# Altium schematic symbol library PBL - Light Sources.SCHLIB: 18 symbols
Pins are listed as number, name and electrical type; pins without a type are passive.

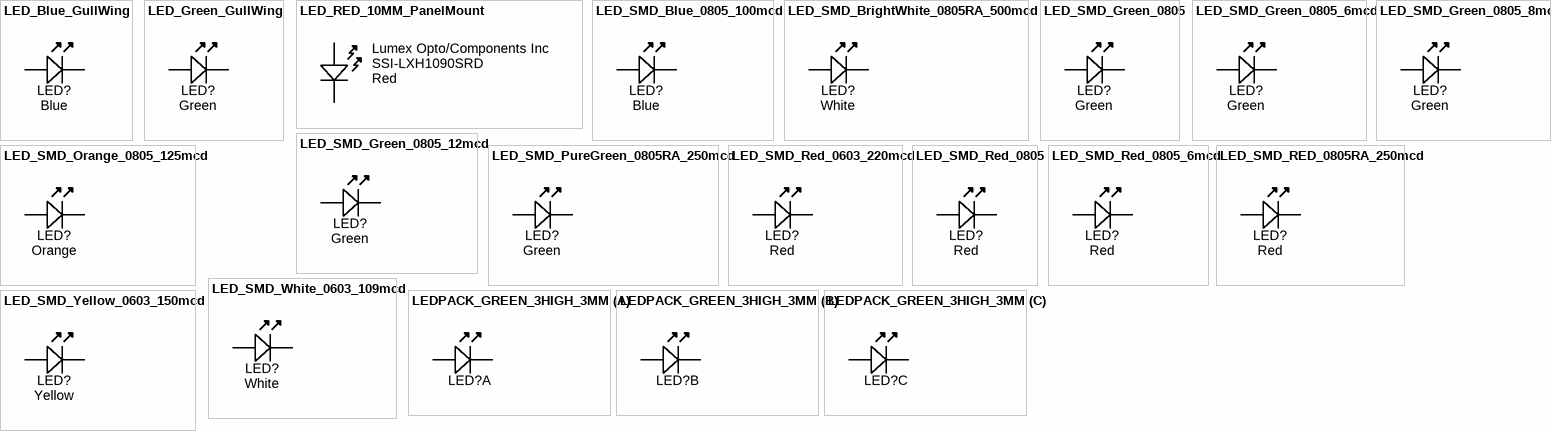
[diagram p0: symbols LED_Blue_GullWing to LEDPACK_GREEN_3HIGH_3MM]

## LED_Blue_GullWing
designator LED?  Color: Blue  (hidden comment: *)
LED, Gull-wing SMD, High-intensity blue; Manufacturer 1: Ligitek; Manufacturer Part Number 1: LDBK9033/TR1; Ratings: 350 mcd; Package / Case: 4.6mm Gull-Wing
footprint LED_GULL1
pins: A, K

## LED_Green_GullWing
designator LED?  Color: Green  (hidden comment: *)
LED Gull-wing SMD High-intensity Green 450mcd 574nm; Manufacturer 1: Ligitek; Manufacturer Part Number 1: L8UG9033/TR1; Ratings: 450 mcd; 574 nm; Material: AlGaInP; Package / Case: 4.6mm Gull-Wing
footprint LED_GULL1
pins: A, K

## LED_RED_10MM_PanelMount
designator LED?, comment Red  Manufacturer 1: Lumex Opto/Components Inc  Manufacturer Part Number 1: SSI-LXH1090SRD
Luminous Flux @ Current - Test: 210 mlm; Current - Test: 20mA; Wavelength - Dominant: 660nm; Millicandela Rating: 250mcd; Voltage - Forward (Vf) Typ: 1.7V; Lens Type: Diffused, Red Tinted; Lens Style/Size: Round, 5mm, T-1 3/4; Viewing Angle: 60°; Description 1: LED 10MM SUPER RED PANEL MOUNT; Shape: Round; Type: LED; RoHS: RoHS Compliant; Category: Optoelectronics; Color: Red; Wavelength - Peak: 660nm; Package / Case: Radial; Mounting Type: Through Hole; Packaging: Bulk; ComponentLink1URL: http://www.lumex.com/specs/SSL-LX5093SRD D.pdf; ComponentLink1Description: http://www.lumex.com/specs/SSL-LX5093SRD D.pdf; Supplier 1: Digi-Key; Supplier Part Number 1: 67-1174-ND; Stock 1: 1425; Pricing 1: 1=0.98, 10=0.78, 50=0.6826, 250=0.585, 1000=0.507 (USD); Lens Color: Red; Panel Cutout Dimensions: 14mm (Round); Voltage: 1.7V; ComponentLink2URL: http://www.lumex.com/specs/SSI-LXH1090SRD.pdf; ComponentLink2Description: http://www.lumex.com/specs/SSI-LXH1090SRD.pdf
pins: A, K

## LED_SMD_Blue_0805_100mcd
designator LED?, comment Blue
LED 0805 SMD Blue 100mcd 470nm; Manufacturer 1: Ligitek; Manufacturer Part Number 1: LG-170DBKZ-CT; Material: InGaN/GaN; Ratings: 100 mcd; 470 nm; Package / Case: 0805; Value: Blue; Color: Blue
footprint LED-0805-K
pins: A, K

## LED_SMD_BrightWhite_0805RA_500mcd
designator LED?, comment White
LED 0805 SIDELED SMD Bright White ~500mcd 20mA; Manufacturer 1: Kingbright Corp; Manufacturer Part Number 1: APA2106QWF/G; Material: InGaN; Ratings: ~500 mcd @ 20 mA; Package / Case: 2.1x0.6x1.0mm SIDELED; Value: White; Color: White
footprint LED-0805S-SIDELED-2.1x0.6x1.0 (Lite-On Inc PLCC Side LED)
pins: A, K

## LED_SMD_Green_0805
designator LED?, comment Green
LED, 0805 SMD, Green; Manufacturer 1: Ligitek; Manufacturer Part Number 1: LG170G-CT; Material: GaP; Ratings: 10 mcd; 573 nm; Package / Case: 0805
footprint LED-0805-K
pins: A, K

## LED_SMD_Green_0805_6mcd
designator LED?  Color: Green
LED, 0805 SMD, Green; Manufacturer 1: LITE-ON; Manufacturer Part Number 1: LTST-C171GKT; Material: GaP; Ratings: 6 mcd; 569 nm; Package / Case: 0805; Supplier 1: Digi-Key; Supplier Part Number 1: 160-1423-1-ND; Value: Green
footprint LED-0805-K
pins: A, K

## LED_SMD_Green_0805_8mcd
designator LED?, comment Green
LED, 0805 SMD, Green; Manufacturer 1: Ligitek; Manufacturer Part Number 1: LG-170PG-CT; Material: GaP; Ratings: 8 mcd; 558 nm; Package / Case: 0805
footprint LED-0805-K
pins: A, K

## LED_SMD_Green_0805_12mcd
designator LED?, comment Green
LED 0805 SMD Green 12mcd 569nm; Manufacturer 1: LITE-ON; Manufacturer Part Number 1: LTST-C171GKT; Material: GaP; Ratings: 12 mcd; 569 nm; Package / Case: 0805; Supplier 1: Digi-Key; Supplier Part Number 1: 160-1423-1-ND; Value: Green; Color: Green
footprint LED-0805-K
pins: A, K

## LED_SMD_Orange_0805_125mcd
designator LED?, comment Orange
LED, 0805 SMD, Orange; Manufacturer 1: Ligitek; Manufacturer Part Number 1: LG-170-8SEF-CT; Material: AIGaInP; Ratings: 125 mcd; 605 nm; Package / Case: 0805
footprint LED-0805-K
pins: A, K

## LED_SMD_PureGreen_0805RA_250mcd
designator LED?, comment Green
LED 0805 SIDELED SMD Green 250mcd 525nm; Manufacturer 1: Kingbright Corp; Manufacturer Part Number 1: APA2106ZGC; Material: InGaN; Ratings: 250 mcd; 525 nm; Package / Case: 2.1x0.6x1.0mm SIDELED; Value: Green; Supplier 1: Digi-Key; Supplier Part Number 1: 754-1062-1-ND; Color: Green
footprint LED-0805S-SIDELED-2.1x0.6x1.0 (Lite-On Inc PLCC Side LED)
pins: A, K

## LED_SMD_Red_0603_220mcd
designator LED?, comment Red
LED 0603 SMD Hyper Red 630nm 220mcd 20mA; Manufacturer 1: Kingbright Corp; Manufacturer Part Number 1: APT1608SURCK; Material: AlGaInP on GaAs; Ratings: 220 mcd; 630 nm; Voltage - Forward (Vf) Typ: 1.95V; Voltage - Forward (Vf) @ 10mA: 1.9V; Package / Case: 0603 (1608 metric); Supplier 1: Digi-Key; Supplier Part Number 1: 754-1123-1-ND
footprint LED-0603-RED
pins: A, K

## LED_SMD_Red_0805
designator LED?, comment Red
LED, 0805 SMD, Red; Manufacturer 1: Ligitek; Manufacturer Part Number 1: LG170SR-CT; Material: GaAIAs; Ratings: 20 mcd; 643 nm; Package / Case: 0805
footprint LED-0805-A
pins: A, K

## LED_SMD_Red_0805_6mcd
designator LED?  Color: Red
LED 0805 SMD Red 6mcd 621nm; Manufacturer 1: Lite-On Inc; Manufacturer Part Number 1: LTST-C171EKT; Material: GaAsP on GaP; Ratings: 6 mcd; 621 nm; Package / Case: 0805; Supplier 1: Digi-Key; Supplier Part Number 1: 160-1422-1-ND; Value: Red
footprint LED-0805-K
pins: A, K

## LED_SMD_RED_0805RA_250mcd
designator LED?, comment Red
LED SMD SIDELED Red 630nm 250mcd 0805; Manufacturer 1: Kingbright Corp; Manufacturer Part Number 1: APA2106SURCK; Material: Al-InGaN; Ratings: 250 mcd; 630 nm; Package / Case: 2.1x0.6x1.0mm SIDELED; Value: Red; Supplier 1: Digi-Key; Supplier Part Number 1: 754-1060-1-ND; Color: Red
footprint LED-0805S-SIDELED-2.1x0.6x1.0 (Lite-On Inc PLCC Side LED)
pins: A, K

## LED_SMD_White_0603_109mcd
designator LED?, comment White
LED 0603 SMD White 8700K 108.5mcd 5mA; Manufacturer 1: Lite-On Inc; Manufacturer Part Number 1: LTW-C193TS5; Material: InGaN; Ratings: 108.5 mcd; 8700K; Millicandela Rating: 230mcd; Voltage - Forward (Vf) Typ: 3.3V; Current - Test: 20mA; Viewing Angle: 120°; Lens Type: Clear, Tinted; Lens Style/Size: Rectangle with Flat Top, 0.8mm x 1.1mm; Voltage - Forward (Vf) @ 10mA: 3.0V; Package / Case: 0603 (1608 metric); Supplier 1: Digi-Key; Supplier Part Number 1: 160-1721-1-ND; Supplier 2: Digi-Key; Supplier Part Number 2: APT1608QWF/D-ND; Manufacturer 2: Kingbright Corp; Manufacturer Part Number 2: APT1608QWF/D; Color: White; Size / Dimension: 1.60mm L x 0.80mm W; Mounting Type: Surface Mount; Luminous Flux @ Current - Test: -; ComponentLink2URL: http://www.kingbrightusa.com/images/catalog/SPEC/APT1608QWF-D.pdf; ComponentLink2Description: APT1608QWF-D Datasheet
footprint LED-0603-WHITE
pins: A, K

## LED_SMD_Yellow_0603_150mcd
designator LED?, comment Yellow
LED 0603 SMD Yellow 590nm 150mcd 20mA; Manufacturer 1: Kingbright Corp; Manufacturer Part Number 1: APT1608SYCK; Material: AlGaInP on GaAs; Ratings: 150 mcd; 590 nm; Voltage - Forward (Vf) Typ: 2V; Voltage - Forward (Vf) @ 10mA: 1.95V; Package / Case: 0603 (1608 metric); Supplier 1: Digi-Key; Supplier Part Number 1: 754-1124-1-ND
footprint LED-0603-YELLOW
pins: A, K

## LEDPACK_GREEN_3HIGH_3MM
designator LED?, comment Power status  (value not drawn)
LED array PCB mount 3-high 3mm green; Manufacturer 1: Dialight; Manufacturer Part Number 1: 564-0100-222F; Ratings: 10mcd; 20mA; Voltge Rating: 2.1V; Wavelength - Peak: 585nm; Viewing Angle: 60°; Package / Case: 3-high LED bar; Supplier 1: Digi-Key; Supplier Part Number 1: 350-1752-ND; ComponentLink2URL: http://www.dialight.com/Assets/Brochures_And_Catalogs/Indication/564-0x00-xxx.pdf; ComponentLink2Description: http://www.dialight.com/Assets/Brochures_And_Catalogs/Indication/564-0x00-xxx.pdf; Color: Green; Value: Green
footprint LED_3-HIGH_3MM (LED Circuit Board Indicator Tri-Level)
part A pins: A1, K1
part B pins: A2, K2
part C pins: A3, K3